# EAGLE library part INFINEON_TLE5012B_E1000 (library Upverter Library)
INF-TLE5012BEXX-PG-DSO-8
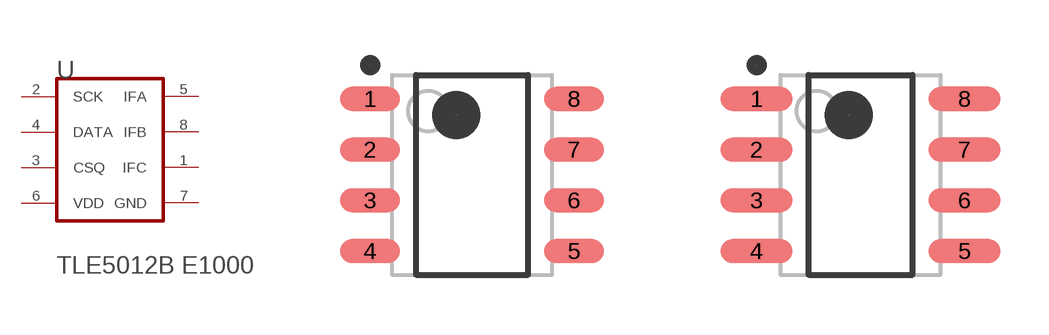
[diagram p0: symbol with the pads of INFINEON_TLE5012B_E1000_0; footprints INFINEON_TLE5012B_E1000_0, INFINEON_TLE5012B_E1000_1]

Designator prefix U

## INFINEON_TLE5012B_E1000INFINEON_TLE5012B_E1000_0_0 (Component_Link_1_Description: Manufacturer URL; Component_Link_1_URL: http://www.infineon.com/; Component_Link_3_Description: Package Specification; Component_Link_3_URL: http://www.infineon.com/dgdl/TLE7259-2GE_DS_rev12.pdf?folderId=db3a3043163797a6011666d32a0c0de1&fileId=db3a3043163797a6011666d4dbb80de2&location=en.Products.Automotive_ICs.Automotive_Transceivers.LIN_Transceivers.DATASHEET.TLE7259-2GE_DS_rev12.pdf; Datasheet_Version: Rev. 1.1; Green: true; Halogen_free: available; Interface: SPI, IIF; MF: Infineon; MPN: TLE5012B E1000; Mounting_Technology: Surface Mount; Package_Description: 8-Pin Plastic (Green) Dual Small Outline Package, 4.9 x 3.9 mm Body, 1.27 mm Pitch; Package_Version: Mar-07; Packing: Reel; ciiva_ids: 7675067; datasheet: http://www.infineon.com/dgdl/TLE5012B_FDS_Rev1+1.pdf?folderId=db3a30431ce5fb52011d3dd6e8012582&fileId=db3a304334fac4c601350f31c43c433f; footprint_variant_name_0: Level C; footprint_variant_name_1: Level B; footprint_variant_name_2: Level A; import_ts: 1521845141; imported: yes; imported_from: vault; package: PG-DSO-8-16; pin_0_0_1_inside_edge: clock; prefix: U; release_date: 1409234812; vault_guid: 0753320D-5F07-4E61-B6F4-8D26939B768A; vault_revision: 3B46AF6C-B76E-4A0E-8D2A-8CD1C2A5AA45)  [INFINEON_TLE5012B_E1000_0]
1  IFC
2  SCK  in
3  CSQ  in
4  DATA
5  IFA  oc
6  VDD  pwr
7  GND  pwr
8  IFB  oc

## INFINEON_TLE5012B_E1000INFINEON_TLE5012B_E1000_0_1 (Component_Link_1_Description: Manufacturer URL; Component_Link_1_URL: http://www.infineon.com/; Component_Link_3_Description: Package Specification; Component_Link_3_URL: http://www.infineon.com/dgdl/TLE7259-2GE_DS_rev12.pdf?folderId=db3a3043163797a6011666d32a0c0de1&fileId=db3a3043163797a6011666d4dbb80de2&location=en.Products.Automotive_ICs.Automotive_Transceivers.LIN_Transceivers.DATASHEET.TLE7259-2GE_DS_rev12.pdf; Datasheet_Version: Rev. 1.1; Green: true; Halogen_free: available; Interface: SPI, IIF; MF: Infineon; MPN: TLE5012B E1000; Mounting_Technology: Surface Mount; Package_Description: 8-Pin Plastic (Green) Dual Small Outline Package, 4.9 x 3.9 mm Body, 1.27 mm Pitch; Package_Version: Mar-07; Packing: Reel; ciiva_ids: 7675067; datasheet: http://www.infineon.com/dgdl/TLE5012B_FDS_Rev1+1.pdf?folderId=db3a30431ce5fb52011d3dd6e8012582&fileId=db3a304334fac4c601350f31c43c433f; footprint_variant_name_0: Level C; footprint_variant_name_1: Level B; footprint_variant_name_2: Level A; import_ts: 1521845141; imported: yes; imported_from: vault; package: PG-DSO-8-16; pin_0_0_1_inside_edge: clock; prefix: U; release_date: 1409234812; vault_guid: 0753320D-5F07-4E61-B6F4-8D26939B768A; vault_revision: 3B46AF6C-B76E-4A0E-8D2A-8CD1C2A5AA45)  [INFINEON_TLE5012B_E1000_1]
Pads as for INFINEON_TLE5012B_E1000_0

## INFINEON_TLE5012B_E1000INFINEON_TLE5012B_E1000_0_2 (Component_Link_1_Description: Manufacturer URL; Component_Link_1_URL: http://www.infineon.com/; Component_Link_3_Description: Package Specification; Component_Link_3_URL: http://www.infineon.com/dgdl/TLE7259-2GE_DS_rev12.pdf?folderId=db3a3043163797a6011666d32a0c0de1&fileId=db3a3043163797a6011666d4dbb80de2&location=en.Products.Automotive_ICs.Automotive_Transceivers.LIN_Transceivers.DATASHEET.TLE7259-2GE_DS_rev12.pdf; Datasheet_Version: Rev. 1.1; Green: true; Halogen_free: available; Interface: SPI, IIF; MF: Infineon; MPN: TLE5012B E1000; Mounting_Technology: Surface Mount; Package_Description: 8-Pin Plastic (Green) Dual Small Outline Package, 4.9 x 3.9 mm Body, 1.27 mm Pitch; Package_Version: Mar-07; Packing: Reel; ciiva_ids: 7675067; datasheet: http://www.infineon.com/dgdl/TLE5012B_FDS_Rev1+1.pdf?folderId=db3a30431ce5fb52011d3dd6e8012582&fileId=db3a304334fac4c601350f31c43c433f; footprint_variant_name_0: Level C; footprint_variant_name_1: Level B; footprint_variant_name_2: Level A; import_ts: 1521845141; imported: yes; imported_from: vault; package: PG-DSO-8-16; pin_0_0_1_inside_edge: clock; prefix: U; release_date: 1409234812; vault_guid: 0753320D-5F07-4E61-B6F4-8D26939B768A; vault_revision: 3B46AF6C-B76E-4A0E-8D2A-8CD1C2A5AA45)  [INFINEON_TLE5012B_E1000_2]
Pads as for INFINEON_TLE5012B_E1000_0

## Footprint INFINEON_TLE5012B_E1000_0 (pad centres in mm)
INF-TLE5012BEXX-PG-DSO-8
smd 1.5 x 0.6: 1 -2.55,1.905; 2 -2.55,0.635; 3 -2.55,-0.635; 4 -2.55,-1.905; 5 2.55,-1.905; 6 2.55,-0.635; 7 2.55,0.635; 8 2.55,1.905

## Footprint INFINEON_TLE5012B_E1000_1 (pad centres in mm)
INF-TLE5012BEXX-PG-DSO-8
smd 1.8 x 0.6: 1 -2.6,1.905; 2 -2.6,0.635; 3 -2.6,-0.635; 4 -2.6,-1.905; 5 2.6,-1.905; 6 2.6,-0.635; 7 2.6,0.635; 8 2.6,1.905

## Footprint INFINEON_TLE5012B_E1000_2 (pad centres in mm)
INF-TLE5012BEXX-PG-DSO-8
smd 2.1 x 0.7: 1 -2.65,1.905; 2 -2.65,0.635; 3 -2.65,-0.635; 4 -2.65,-1.905; 5 2.65,-1.905; 6 2.65,-0.635; 7 2.65,0.635; 8 2.65,1.905